# Altium schematic symbol library Odu.SchLib: 9 symbols
Pins are listed as number, name and electrical type; pins without a type are passive.

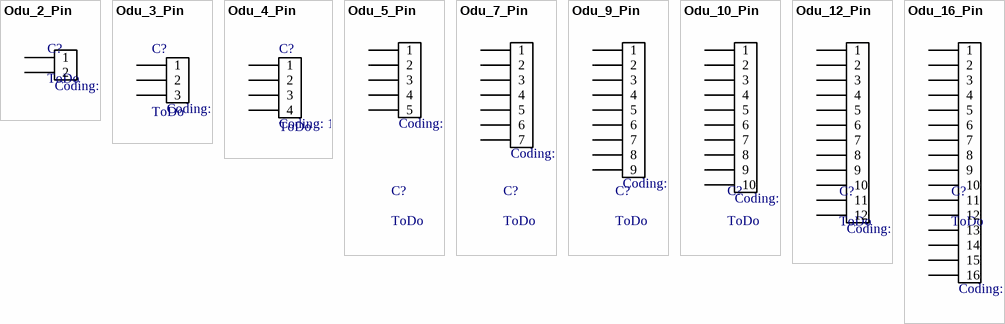
[diagram p0: symbols Odu_2_Pin to Odu_16_Pin]

## Odu_2_Pin
designator C?, comment ToDo  Coding: 1
footprint ODU_0_02_A (90° Angled Size 0 2-Pin Odu connector)
footprint ODU_0_02_V (Vertical Size 0 2-Pin Odu connector)
pins: 1, 2

## Odu_3_Pin
designator C?, comment ToDo  Coding: 1
footprint ODU_0_03_A (90° Angled Size 0 3-Pin Odu connector)
footprint ODU_0_03_V (Vertical Size 0 3-Pin Odu connector)
pins: 1, 2, 3

## Odu_4_Pin
designator C?, comment ToDo  Coding: 1
footprint ODU_0_04_A (90° Angled Size 0 4-Pin Odu connector)
footprint ODU_0_04_V (Vertical Size 0 4-Pin Odu connector)
pins: 1, 2, 3, 4

## Odu_5_Pin
designator C?, comment ToDo  Coding: 1
footprint ODU_0_05_V (Vertical Size 0 5-Pin Odu connector)
footprint ODU_0_05_A (90° Angled Size 0 5-Pin Odu connector)
pins: 1, 2, 3, 4, 5

## Odu_7_Pin
designator C?, comment ToDo  Coding: 1
footprint ODU_3_07_V (Vertical Size 3 7-Pin Odu connector)
footprint ODU_0_07_V (Vertical Size 0 7-Pin Odu connector)
footprint ODU_0_07_A (90° Angled Size 0 7-Pin Odu connector)
pins: 1, 2, 3, 4, 5, 6, 7

## Odu_9_Pin
designator C?, comment ToDo  Coding: 1
footprint ODU_0_09_A (90° Angled Size 0 9-Pin Odu connector)
footprint ODU_0_09_V (Vertical Size 0 9-Pin Odu connector)
pins: 1, 2, 3, 4, 5, 6, 7, 8, 9

## Odu_10_Pin
designator C?, comment ToDo  Coding: 1
footprint ODU_1_10_V (Vertical Size 1 10-Pin Odu connector)
pins: 1, 2, 3, 4, 5, 6, 7, 8, 9, 10

## Odu_12_Pin
designator C?, comment ToDo  Coding: 1
footprint ODU_3_12_V (Vertical Size 3 12-Pin Odu connector)
pins: 1, 2, 3, 4, 5, 6, 7, 8, 9, 10, 11, 12

## Odu_16_Pin
designator C?, comment ToDo  Coding: 1
footprint ODU_3_16_V (Vertical Size 3 16-Pin Odu connector)
pins: 1, 2, 3, 4, 5, 6, 7, 8, 9, 10, 11, 12, 13, 14, 15, 16